# Altium integrated library WE_WR-TBL_Rising Cage System_7.50 mm_rev15b.IntLib: 15 symbols
Pins are listed as number, name and electrical type; pins without a type are passive.

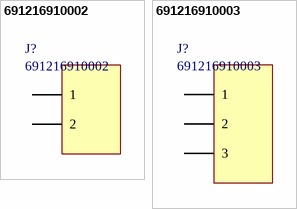
[diagram p0: symbols 691216910002 to 691216910003]

## 691216910002
designator J?
Horizontal Cable Entry with Rising Cage Clamp, Serie 2169 - 7.50 mm; Manufacturer: Wurth Elektronik; ComponentLink1 Description: Manufacturer; ComponentLink2 Description: Datasheet; NoPins: 2; ComponentLink1 URL: http://www.we-online.com; ComponentLink2 URL: http://katalog.we-online.de/em/datasheet/6912169100xx.pdf; Created By: Baojun Chen; Created Date: 6-Aug-15; PartNo: 691216910002
footprint 691216910002 (Serie 2169 - 7.50 mm _ 2 pins)
pins: 1, 2

## 691216910003
designator J?
Horizontal Cable Entry with Rising Cage Clamp, Serie 2169 - 7.50 mm; Manufacturer: Wurth Elektronik; ComponentLink1 Description: Manufacturer; ComponentLink2 Description: Datasheet; NoPins: 3; ComponentLink1 URL: http://www.we-online.com; ComponentLink2 URL: http://katalog.we-online.de/em/datasheet/6912169100xx.pdf; Created By: Baojun Chen; Created Date: 6-Aug-15; PartNo: 691216910003
footprint 691216910003 (Serie 2169 - 7.50 mm _ 3 pins)
pins: 1, 2, 3


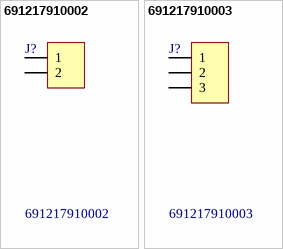
[diagram p1: symbols 691217910002 to 691217910003]

## 691217910002
designator J?
WR-TBL Horizontal Entry Modular with Rising Cage Clamp,Serie 2179 - 7.50 mm; Manufacturer: Würth Elektronik eiSos GmbH; ComponentLink1 Description: Manufacturer; ComponentLink2 Description: Datasheet; NoPins: 2; Created Date: 2 December 2013; partNo: 691217910002; ComponentLink1URL: http://www.we-online.com; ComponentLink2URL: http://katalog.we-online.de/em/datasheet/6912179100xx.pdf; Created by: Karrer Zheng
footprint 691217910002
pins: 1, 2

## 691217910003
designator J?
WR-TBL Horizontal Entry Modular with Rising Cage Clamp,Serie 2179 - 7.50 mm; Manufacturer: Würth Elektronik eiSos GmbH; ComponentLink1 Description: Manufacturer; ComponentLink2 Description: Datasheet; NoPins: 3; Created Date: 2 December 2013; partNo: 691217910003; ComponentLink1URL: http://www.we-online.com; ComponentLink2URL: http://katalog.we-online.de/em/datasheet/6912179100xx.pdf; Created by: Karrer Zheng
footprint 691217910003
pins: 1, 2, 3


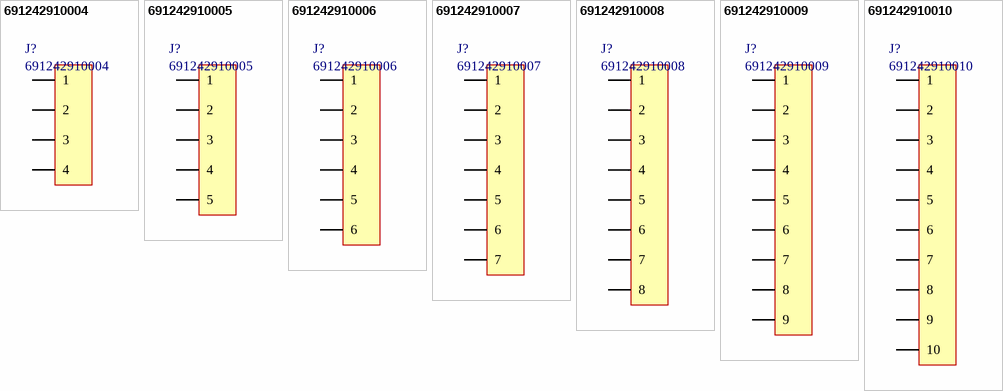
[diagram p2: symbols 691242910004 to 691242910010]

## 691242910004
designator J?
Horizontal Cable Entry with Rising Cage Clamp, Serie 2429 - 7.5 mm; Manufacturer: Wurth Elektronik; ComponentLink1 Description: Manufacturer; ComponentLink2 Description: Datasheet; NoPins: 4; ComponentLink1 URL: http://www.we-online.com; ComponentLink2 URL: http://katalog.we-online.de/em/datasheet/6912429100xx.pdf; Created By: Baojun Chen; Created Date: 26.Aug.2015; PartNo: 691242910004
footprint 691242910004 (Serie 2429 -7.50 mm_4 pins)
pins: 1, 2, 3, 4

## 691242910005
designator J?
Horizontal Cable Entry with Rising Cage Clamp, Serie 2429 - 7.5 mm; Manufacturer: Wurth Elektronik; ComponentLink1 Description: Manufacturer; ComponentLink2 Description: Datasheet; NoPins: 5; ComponentLink1 URL: http://www.we-online.com; ComponentLink2 URL: http://katalog.we-online.de/em/datasheet/6912429100xx.pdf; Created By: Baojun Chen; Created Date: 26.Aug.2015; PartNo: 691242910005
footprint 691242910005 (Serie 2429 -7.50 mm_5 pins)
pins: 1, 2, 3, 4, 5

## 691242910006
designator J?
Horizontal Cable Entry with Rising Cage Clamp, Serie 2429 - 7.5 mm; Manufacturer: Wurth Elektronik; ComponentLink1 Description: Manufacturer; ComponentLink2 Description: Datasheet; NoPins: 6; ComponentLink1 URL: http://www.we-online.com; ComponentLink2 URL: http://katalog.we-online.de/em/datasheet/6912429100xx.pdf; Created By: Baojun Chen; Created Date: 26.Aug.2015; PartNo: 691242910006
footprint 691242910006 (Serie 2429 -7.50 mm_6 pins)
pins: 1, 2, 3, 4, 5, 6

## 691242910007
designator J?
Horizontal Cable Entry with Rising Cage Clamp, Serie 2429 - 7.5 mm; Manufacturer: Wurth Elektronik; ComponentLink1 Description: Manufacturer; ComponentLink2 Description: Datasheet; NoPins: 7; ComponentLink1 URL: http://www.we-online.com; ComponentLink2 URL: http://katalog.we-online.de/em/datasheet/6912429100xx.pdf; Created By: Baojun Chen; Created Date: 26.Aug.2015; PartNo: 691242910007
footprint 691242910007 (Serie 2429 -7.50 mm_7 pins)
pins: 1, 2, 3, 4, 5, 6, 7

## 691242910008
designator J?
Horizontal Cable Entry with Rising Cage Clamp, Serie 2429 - 7.5 mm; Manufacturer: Wurth Elektronik; ComponentLink1 Description: Manufacturer; ComponentLink2 Description: Datasheet; NoPins: 8; ComponentLink1 URL: http://www.we-online.com; ComponentLink2 URL: http://katalog.we-online.de/em/datasheet/6912429100xx.pdf; Created By: Baojun Chen; Created Date: 26.Aug.2015; PartNo: 691242910008
footprint 691242910008 (Serie 2429 -7.50 mm_8 pins)
pins: 1, 2, 3, 4, 5, 6, 7, 8

## 691242910009
designator J?
Horizontal Cable Entry with Rising Cage Clamp, Serie 2429 - 7.5 mm; Manufacturer: Wurth Elektronik; ComponentLink1 Description: Manufacturer; ComponentLink2 Description: Datasheet; NoPins: 9; ComponentLink1 URL: http://www.we-online.com; ComponentLink2 URL: http://katalog.we-online.de/em/datasheet/6912429100xx.pdf; Created By: Baojun Chen; Created Date: 26.Aug.2015; PartNo: 691242910009
footprint 691242910009 (Serie 2429 -7.50 mm_9 pins)
pins: 1, 2, 3, 4, 5, 6, 7, 8, 9

## 691242910010
designator J?
Horizontal Cable Entry with Rising Cage Clamp, Serie 2429 - 7.5 mm; Manufacturer: Wurth Elektronik; ComponentLink1 Description: Manufacturer; ComponentLink2 Description: Datasheet; NoPins: 10; ComponentLink1 URL: http://www.we-online.com; ComponentLink2 URL: http://katalog.we-online.de/em/datasheet/6912429100xx.pdf; Created By: Baojun Chen; Created Date: 26.Aug.2015; PartNo: 691242910010
footprint 691242910010 (Serie 2429 -7.50 mm_10 pins)
pins: 1, 2, 3, 4, 5, 6, 7, 8, 9, 10


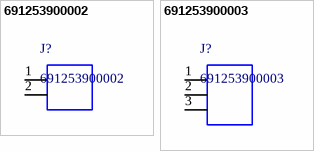
[diagram p3: symbols 691253900002 to 691253900003]

## 691253900002
designator J?
WR-TBL Vertical Cable Entry With Rising Cage Clamp,Serie 2539 - 7.50 mm; Manufacturer: Wurth Elektronik; ComponentLink1 Description: Manufacturer; ComponentLink2 Description: Datasheet; ComponentLink1URL: http://www.we-online.de; ComponentLink2URL: http://katalog.we-online.de/em/datasheet/6912539000XX.pdf; Created by: Baojun Chen; Created Date: 15.Sep.2015; partNo: 691253900002
footprint 691253900002 (Serie 2539 - 7.50 mm _ 2 pins)
pins: 1, 2

## 691253900003
designator J?
WR-TBL Vertical Cable Entry With Rising Cage Clamp,Serie 2539 - 7.50 mm; Manufacturer: Wurth Elektronik; ComponentLink1 Description: Manufacturer; ComponentLink2 Description: Datasheet; ComponentLink1URL: http://www.we-online.de; ComponentLink2URL: http://katalog.we-online.de/em/datasheet/6912539000XX.pdf; Created by: Baojun Chen; Created Date: 15.Sep.2015; partNo: 691253900003
footprint 691253900003 (Serie 2539 - 7.50 mm _ 3 pins)
pins: 1, 2, 3


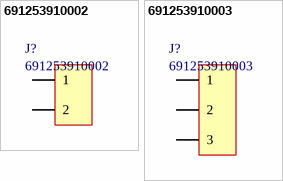
[diagram p4: symbols 691253910002 to 691253910003]

## 691253910002
designator J?
Horizontal Cable Entry with Rising Cage Clamp, Serie 2539 - 7.5mm; Manufacturer: Wurth Elektronik; ComponentLink1 Description: Manufacturer; ComponentLink2 Description: Datasheet; NoPins: 2; ComponentLink1 URL: http://www.we-online.com; ComponentLink2 URL: http://katalog.we-online.de/em/datasheet/6912539100xx.pdf; Created By: Baojun Chen; Created Date: 29.Aug.2015; PartNo: 691253910002
footprint 691253910002 (Serie 2539 - 7.50 mm _ 2 pins)
pins: 1, 2

## 691253910003
designator J?
Horizontal Cable Entry with Rising Cage Clamp, Serie 2539 - 7.5mm; Manufacturer: Wurth Elektronik; ComponentLink1 Description: Manufacturer; ComponentLink2 Description: Datasheet; NoPins: 3; ComponentLink1 URL: http://www.we-online.com; ComponentLink2 URL: http://katalog.we-online.de/em/datasheet/6912539100xx.pdf; Created By: Baojun Chen; Created Date: 29.Aug.2015; PartNo: 691253910003
footprint 691253910003 (Serie 2539 - 7.50 mm _ 3 pins)
pins: 1, 2, 3